# Altium footprint library SON127P500X600X80-9N.PcbLib: 1 footprints
Each footprint in its own frame and in the unit in brackets; x right, y up, seen from the top. Pads: shape width x height; smd on the part's side, far side on the other; paste and mask are expansions set on the pad; w line width, h text height; cw(c..) or ccw(c..) is an arc to the next point about the centre after c.
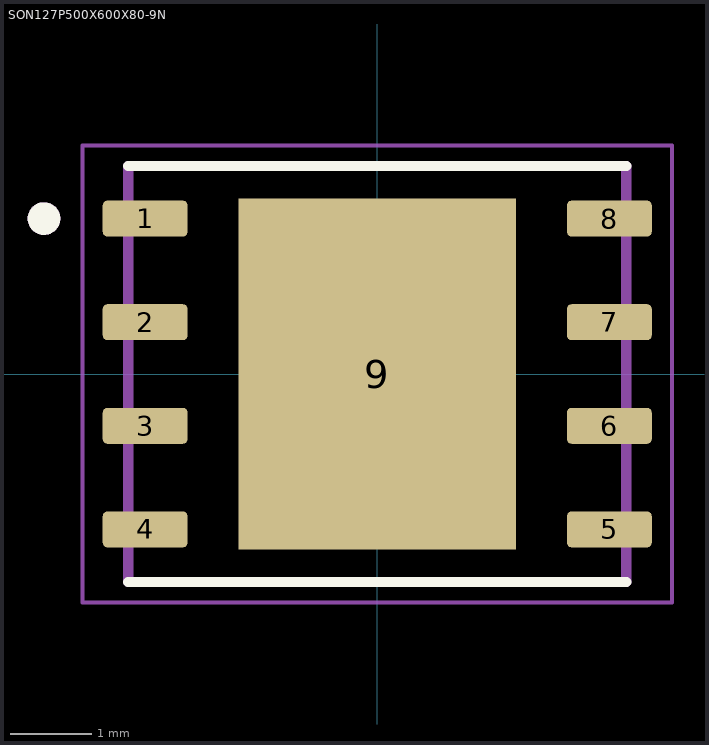
[diagram p0: the footprint, top view; thin cyan lines are the x and y axes]

## SON127P500X600X80-9N [mm]
pads (9):
  rrect25% 1.04x0.44 smd: 1(-2.845,1.905) 2(-2.845,0.635) 3(-2.845,-0.635) 4(-2.845,-1.905) 5(2.845,-1.905) 6(2.845,-0.635) 7(2.845,0.635) 8(2.845,1.905)
  rect 3.4x4.3 smd paste-3: 9(0,0)
Top Overlay:
  circle w0.2: c-4.085,1.905 r0.1
  lines w0.127: -3.05,-2.55 3.05,-2.55 ; -3.05,2.55 3.05,2.55
Top Paste:
  region: 1.08,-1.36 -1.08,-1.36 -1.08,1.36 1.08,1.36
Mechanical 13:
  circle w0.2: c-4.085,1.905 r0.1
  lines w0.127: -3.05,-2.55 3.05,-2.55 3.05,2.55 -3.05,2.55 -3.05,-2.55
Mechanical 15:
  lines w0.05: -3.615,-2.8 3.615,-2.8 3.615,2.8 -3.615,2.8 -3.615,-2.8
3D body "W25Q128JVPIQ.STEP": height 0.81, standoff 0.01, extent -3.003,-2.515 2.997,2.485